# Altium footprint library VSON10_2.5X2.5_M.PcbLib: 1 footprints
Each footprint in its own frame and in the unit in brackets; x right, y up, seen from the top. Pads: shape width x height; smd on the part's side, far side on the other; paste and mask are expansions set on the pad; w line width, h text height; cw(c..) or ccw(c..) is an arc to the next point about the centre after c.
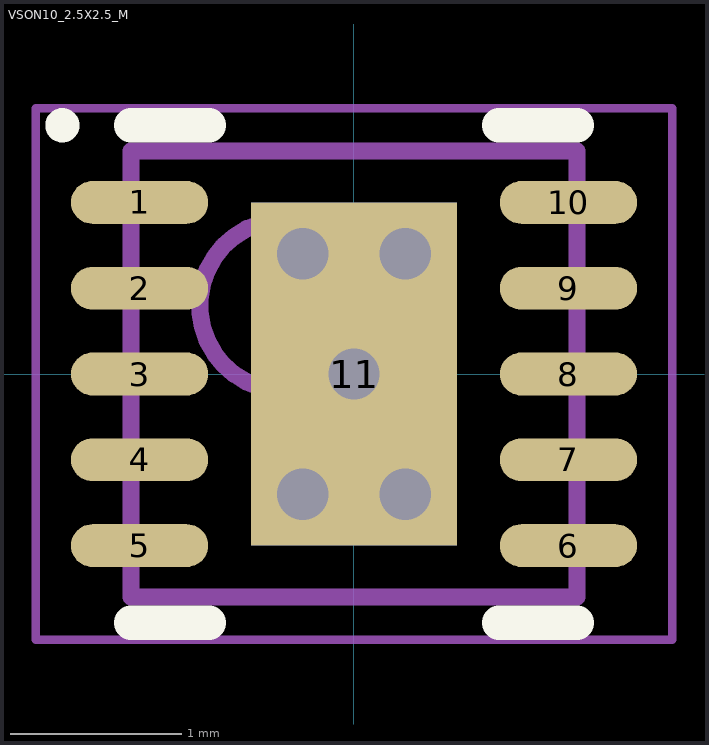
[diagram p0: the footprint, top view; thin cyan lines are the x and y axes]

## VSON10_2.5X2.5_M [mm] "VSON, 10-Leads, Body 2,50x2,50mm, Pitch 0,50mm, Thermal Pad 2,00x1,2mm, IPC Medium Density"
height 0.8
pads (11):
  oval 0.8x0.25 smd: 1(-1.25,1) 2(-1.25,0.5) 3(-1.25,0) 4(-1.25,-0.5) 5(-1.25,-1) 6(1.25,-1) 7(1.25,-0.5) 8(1.25,0) 9(1.25,0.5) 10(1.25,1)
  rect 1.2x2 smd: 11(0,0)
via 0.3,-0.7 diameter 0.5 hole 0.3
via -0.3,-0.7 diameter 0.5 hole 0.3
via 0.3,0.7 diameter 0.5 hole 0.3
via 0,0 diameter 0.5 hole 0.3
via -0.3,0.7 diameter 0.5 hole 0.3
Bottom Layer:
  rectangle: -0.6,-1 0.6,1
Top Overlay:
  circle w0.1: c-1.7,1.45 r0.05
  lines w0.2: -1.3,-1.45 -0.845,-1.45 ; -1.3,1.45 -0.845,1.45 ; 0.845,-1.45 1.3,-1.45 ; 0.845,1.45 1.3,1.45
Mechanical 13:
  circle w0.1: c-0.4,0.4 r0.5
  lines w0.1: -1.3,-1.3 -1.3,1.3 1.3,1.3 1.3,-1.3 -1.3,-1.3
Mechanical 15:
  lines w0.05: -1.855,-1.55 -1.855,1.55 1.855,1.55 1.855,-1.55 -1.855,-1.55
  lines w0.1: -0.5,0 0.5,0 ; 0,-0.5 0,0.5
Mechanical 17:
  text "'.Designator'" at -1.143,-0.889 h0.64
Mechanical 19:
  text "'.Comment'" at -1.143,-0.889 h0.64
3D body "User Library-DSK-10.step": height 0.85, standoff 0, extent -1.35,-1.3 1.35,1.3